# EAGLE library part PIN_1X14 (library FaBo-PIN)
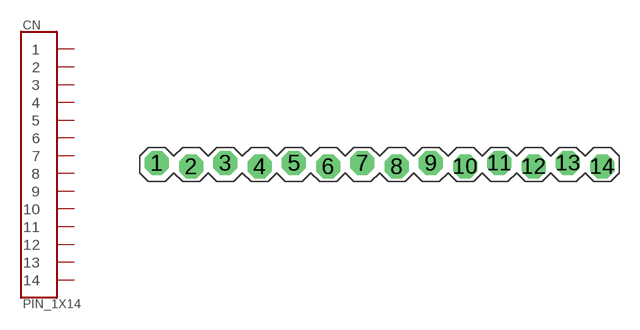
[diagram p6: symbol with the pads of PIN_1X14_SNEAKY; footprint PIN_1X14_SNEAKY]

Designator prefix CN

## PIN_1X14  [PIN_1X14_SNEAKY]
1  1
2  2
3  3
4  4
5  5
6  6
7  7
8  8
9  9
10  10
11  11
12  12
13  13
14  14

## Footprint PIN_1X14_SNEAKY (pad centres in mm)
drill 1 pad 1.778 octagon: 1 -16.51,0.127; 2 -13.97,-0.127; 3 -11.43,0.127; 4 -8.89,-0.127; 5 -6.35,0.127; 6 -3.81,-0.127; 7 -1.27,0.127; 8 1.27,-0.127; 9 3.81,0.127; 10 6.35,-0.127; 11 8.89,0.127; 12 11.43,-0.127; 13 13.97,0.127; 14 16.51,-0.127